# EAGLE library part TX-FM-MID (library strasys_standard)
TX-FM-MID Aurel
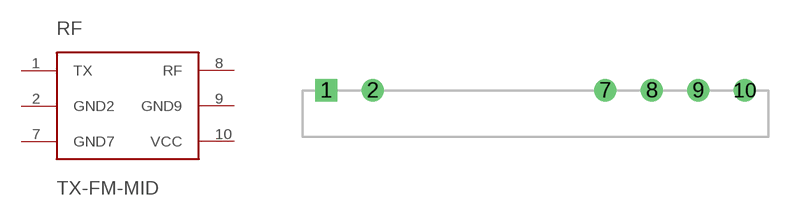
[diagram p10: symbol with the pads of TX_SAW_MID; footprint TX_SAW_MID]

Designator prefix RF

## TX-FM-MID, TX-FM-MID-3V (MPN: TX MID 3V; OC_FARNELL: 1699470; SUPPLIER: Aurel)  [TX_SAW_MID]
1  TX  in
2  GND2
7  GND7
8  RF  out
9  GND9
10  VCC  pwr

## Footprint TX_SAW_MID (pad centres in mm)
RF - Module Fa. Aurel
drill 0.7 square: 1 0,0
drill 0.7: 2 2.54,0; 7 15.24,0; 8 17.78,0; 9 20.32,0; 10 22.86,0